# EAGLE library part CCS811B-JOPD500 (library CCS811B-JOPD500_snapEDA)
Low Power Digital Sensor For Ind
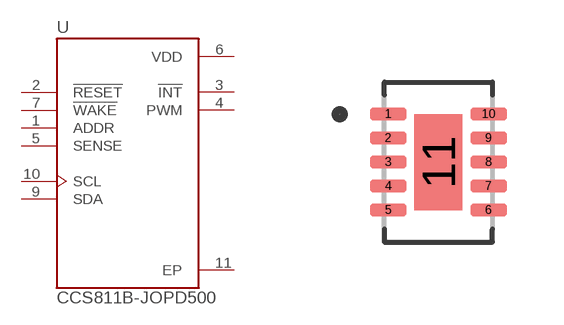
[diagram p0: symbol with the pads of SON60P400X270X110-11N; footprint SON60P400X270X110-11N]

Designator prefix U

## CCS811B-JOPD500 (Availability: Unavailable; Description: Low Power Digital Sensor For Ind; MF: ams; MP: CCS811B-JOPD500; Package: LGA-10 ams; Price: None)  [SON60P400X270X110-11N]
1  ADDR  in
2  !RESET  in
3  !INT  out
4  PWM  out
5  SENSE  in
6  VDD  pwr
7  !WAKE  in
9  SDA
10  SCL  in
11  EP  pwr

## Footprint SON60P400X270X110-11N (pad centres in mm)
smd 0.91 x 0.32: 1 -1.255,1.2; 2 -1.255,0.6; 3 -1.255,0; 4 -1.255,-0.6; 5 -1.255,-1.2; 6 1.255,-1.2; 7 1.255,-0.6; 8 1.255,0; 9 1.255,0.6; 10 1.255,1.2
smd 1.2 x 2.4: 11 0,0